# Altium schematic symbol library diode.SchLib: 13 symbols
Pins are listed as number, name and electrical type; pins without a type are passive.

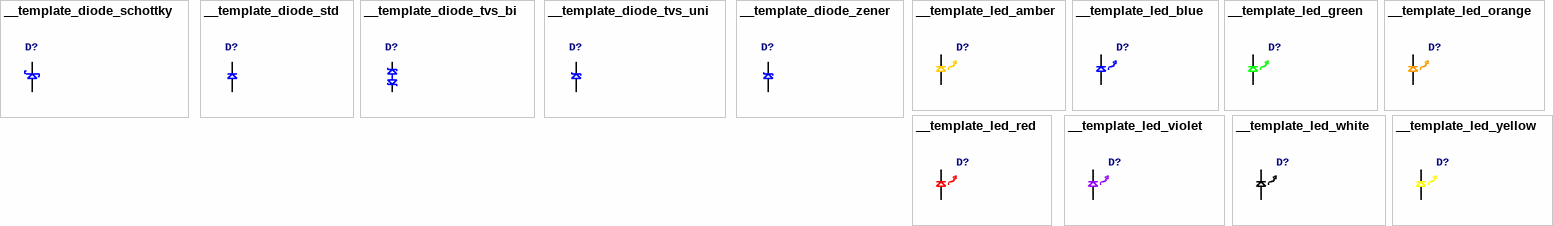
[diagram p0: symbols __template_diode_schottky to __template_led_yellow]

## __template_diode_schottky
designator D?
pins: 1, 2

## __template_diode_std
designator D?
pins: 1, 2

## __template_diode_tvs_bi
designator D?
pins: 1, 2

## __template_diode_tvs_uni
designator D?
pins: 1, 2

## __template_diode_zener
designator D?
pins: 1, 2

## __template_led_amber
designator D?
pins: 1, 2

## __template_led_blue
designator D?
pins: 1, 2

## __template_led_green
designator D?
pins: 1, 2

## __template_led_orange
designator D?
pins: 1, 2

## __template_led_red
designator D?
pins: 1, 2

## __template_led_violet
designator D?
pins: 1, 2

## __template_led_white
designator D?
pins: 1, 2

## __template_led_yellow
designator D?
pins: 1, 2